# EAGLE library part MAX4062 (library 1AA_Stofer)
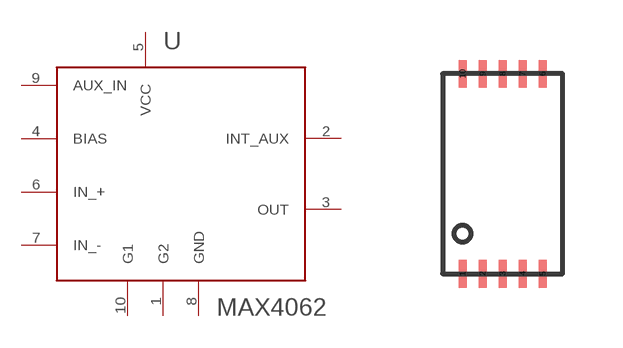
[diagram p23: symbol with the pads of UMAX_10; footprint UMAX_10]

Designator prefix -

## MAX4062  [UMAX_10]
1  G2
2  INT_AUX
3  OUT
4  BIAS
5  VCC
6  IN_+
7  IN_-
8  GND
9  AUX_IN
10  G1

## Footprint UMAX_10 (pad centres in mm)
smd 0.2 x 0.7: 1 0,0.5; 2 0.5,0.5; 3 1,0.5; 4 1.5,0.5; 5 2,0.5; 6 2,5.5; 7 1.5,5.5; 8 1,5.5; 9 0.5,5.5; 10 0,5.5